# Altium integrated library NSC Amplifier.IntLib: 737 symbols (part 6 of 19)
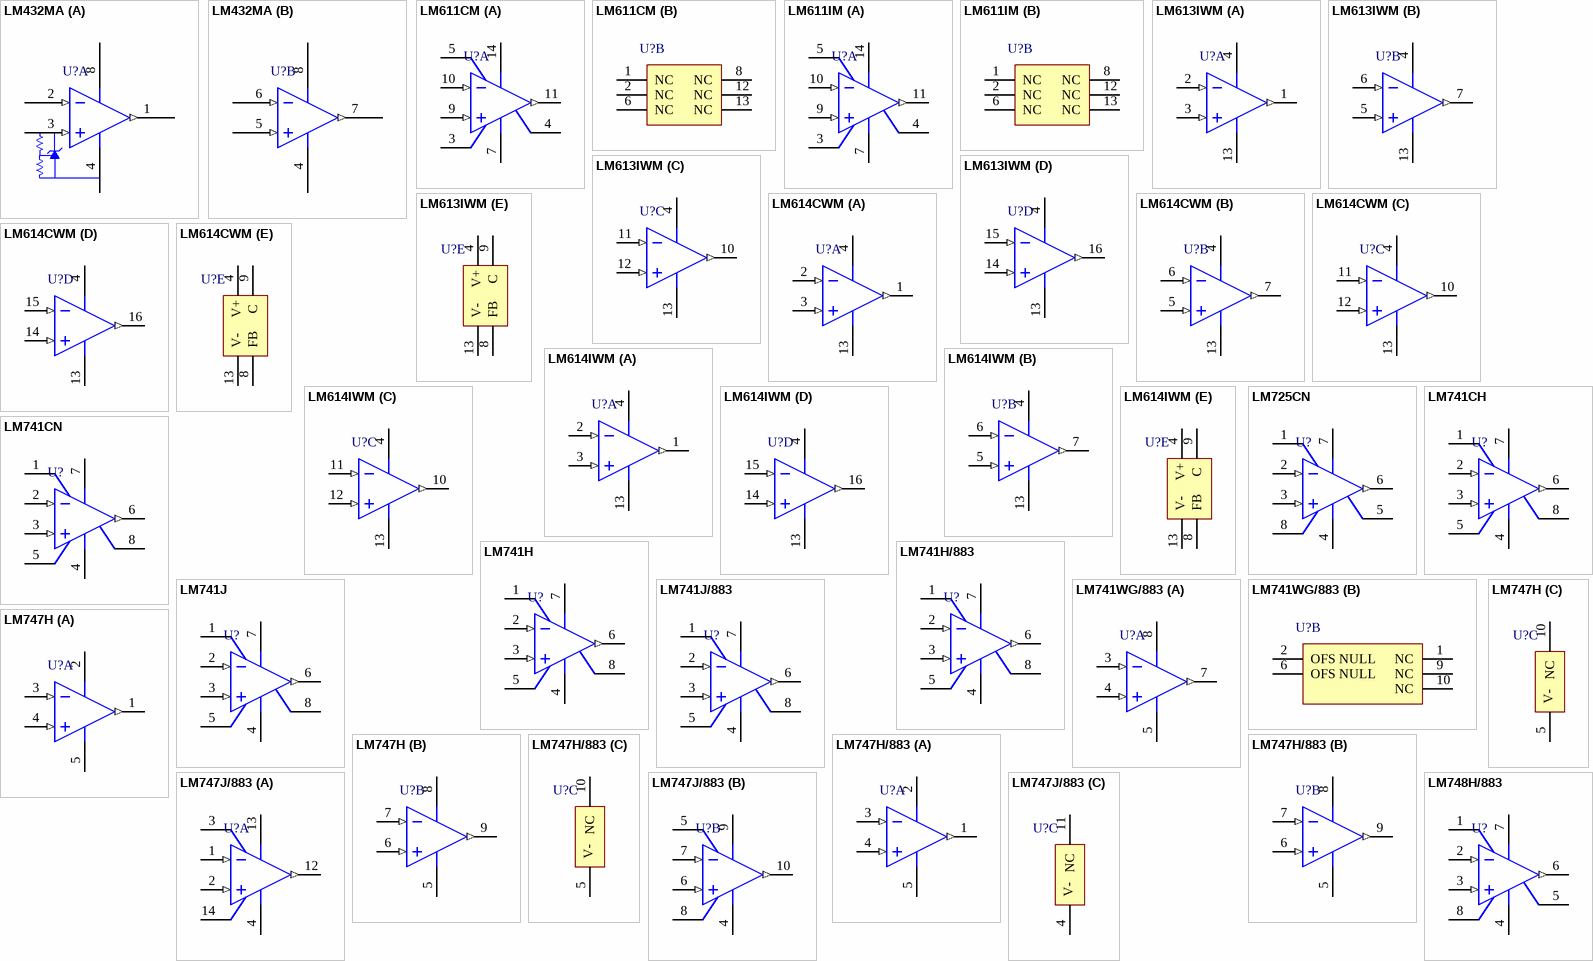
[diagram p44: symbols LM432MA to LM748H/883]

## LM614CWM
designator U?
Quad Operational Amplifier and Adjustable Reference; PartNumber: LM614CWM; Manufacturer: National Semiconductor; CompType: Amplifiers; PackageTopMarking: NSUZXYTT*LM614CWM; PowerWise: N; Published: 4-Dec-2008; DatasheetVersion: Dec-2001; PackageVersion: revF, Apr-1990; PackageReference: M16B; Publisher: Altium Limited; PackageDescription: Molded Package, S.O., .300in Wide, 16 Lead; RoHS: Y; PinCount: 16; DigiKeyPartNumber: LM614CWM-ND; Code_JEDEC: MS-013-AA; Code_IPC: SOIC127P1030-16; ComponentLink1Description: LM614 Datasheet; ComponentLink1URL: http://www.national.com/ds/LM/LM614.pdf; ComponentLink2Description: LM614 Web Page; ComponentLink2URL: http://www.national.com/pf/LM/LM614.html; ComponentLink3Description: M16B Package Page; ComponentLink3URL: http://www.national.com/packaging/folders/m16b.html
footprint M16B_N (SOIC, 16-Leads, Body 10.3x7.5mm, Pitch 1.27mm, IPC Medium Density)
footprint M16B_L (SOIC, 16-Leads, Body 10.3x7.5mm, Pitch 1.27mm, IPC High Density)
footprint M16B_M (SOIC, 16-Leads, Body 10.3x7.5mm, Pitch 1.27mm, IPC Low Density)
pins on every part: 4 V+ (power), 13 V- (power)
part A pins: 1 OUT1 (out), 2 IN1- (in), 3 IN1+ (in)
part B pins: 5 IN2+ (in), 6 IN2- (in), 7 OUT2 (out)
part C pins: 10 OUT3 (out), 11 IN3- (in), 12 IN3+ (in)
part D pins: 14 IN4+ (in), 15 IN4- (in), 16 OUT4 (out)
part E pins: 8 FB, 9 C

## LM614IWM
designator U?
Quad Operational Amplifier and Adjustable Reference; PartNumber: LM614IWM; Manufacturer: National Semiconductor; CompType: Amplifiers; PackageTopMarking: NSUZXYTT*LM614IWM; PowerWise: N; Published: 4-Dec-2008; LatestRevisionDate: 13-Jan-2009; LatestRevisionNote: Sim Model Added.; DatasheetVersion: Dec-2001; PackageVersion: revF, Apr-1990; PackageReference: M16B; Publisher: Altium Limited; PackageDescription: Molded Package, S.O., .300in Wide, 16 Lead; RoHS: O; PinCount: 16; DigiKeyPartNumber: LM614IWM-ND; Code_JEDEC: MS-013-AA; Code_IPC: SOIC127P1030-16; ComponentLink1Description: LM614 Datasheet; ComponentLink1URL: http://www.national.com/ds/LM/LM614.pdf; ComponentLink2Description: LM614 Web Page; ComponentLink2URL: http://www.national.com/pf/LM/LM614.html; ComponentLink3Description: M16B Package Page; ComponentLink3URL: http://www.national.com/packaging/folders/m16b.html
footprint M16B_N (SOIC, 16-Leads, Body 10.3x7.5mm, Pitch 1.27mm, IPC Medium Density)
footprint M16B_L (SOIC, 16-Leads, Body 10.3x7.5mm, Pitch 1.27mm, IPC High Density)
footprint M16B_M (SOIC, 16-Leads, Body 10.3x7.5mm, Pitch 1.27mm, IPC Low Density)
simulation model LM324 (SUBCKT)
pins on every part: 4 V+ (power), 13 V- (power)
part A pins: 1 OUT1 (out), 2 IN1- (in), 3 IN1+ (in)
part B pins: 5 IN2+ (in), 6 IN2- (in), 7 OUT2 (out)
part C pins: 10 OUT3 (out), 11 IN3- (in), 12 IN3+ (in)
part D pins: 14 IN4+ (in), 15 IN4- (in), 16 OUT4 (out)
part E pins: 8 FB, 9 C

## LM725CN
designator U?
Operational Amplifier; PartNumber: LM725CN; Manufacturer: National Semiconductor; CompType: Amplifiers; PackageTopMarking: NSUZXYTT*LM*725CN; Published: 4-Dec-2008; DatasheetVersion: Aug-2000; PackageVersion: revG, May-2006; PackageReference: N08E; Publisher: Altium Limited; PackageDescription: MDIP, .365 x .250 x .130in, 8 Lead, .100in Pitch; RoHS: O; PinCount: 8; DigiKeyPartNumber: LM725CN-ND; Code_JEDEC: MS-001-BA; ComponentLink1Description: LM725 Datasheet; ComponentLink1URL: http://www.national.com/ds/LM/LM725.pdf; ComponentLink2Description: LM725 Web Page; ComponentLink2URL: http://www.national.com/pf/LM/LM725.html; ComponentLink3Description: N08E Package Page; ComponentLink3URL: http://www.national.com/packaging/folders/n08e.html
footprint N08E (DIP, 8-Leads, Row Spacing 7.62mm, Pitch 2.54mm, Body 9.91x6.35mm)
pins: 1 OFS NULL, 2 IN- (in), 3 IN+ (in), 4 V- (power), 5 COMP, 6 OUT (out), 7 V+ (power), 8 OFS NULL

## LM741CH
designator U?
Operational Amplifier; PartNumber: LM741CH; Manufacturer: National Semiconductor; CompType: Amplifiers; PackageTopMarking: NSZXYTTE# LM741CH; PowerWise: N; Published: 4-Dec-2008; LatestRevisionDate: 13-Jan-2009; LatestRevisionNote: Sim Model Added.; DatasheetVersion: Aug-2000; PackageVersion: revF, Jun-1995; PackageReference: H08C; Publisher: Altium Limited; PackageDescription: Metal Can, TO-99, 8 Lead, .200 Dia., P.C.; RoHS: O; PinCount: 8; DigiKeyPartNumber: LM741CH-ND; Code_JEDEC: TO-99; ComponentLink1Description: LM741 Datasheet; ComponentLink1URL: http://www.national.com/ds/LM/LM741.pdf; ComponentLink2Description: LM741 Web Page; ComponentLink2URL: http://www.national.com/pf/LM/LM741.html; ComponentLink3Description: H08C Package Page; ComponentLink3URL: http://www.national.com/packaging/folders/h08c.html
footprint H08C (Can; 8 Leads; Pin Circle Dia. 5.08 mm; Lead Dia. 0.48 mm (max))
simulation model LM741 (SUBCKT)
pins: 1 OFS NULL, 2 IN- (in), 3 IN+ (in), 4 V- (power), 5 OFS NULL, 6 OUT (out), 7 V+ (power), 8 NC

## LM741CN
designator U?
Operational Amplifier; PartNumber: LM741CN; Manufacturer: National Semiconductor; CompType: Amplifiers; PackageTopMarking: NSUZXYTT*LM*741CN; PowerWise: N; Published: 4-Dec-2008; LatestRevisionDate: 13-Jan-2009; LatestRevisionNote: Sim Model Added.; DatasheetVersion: Aug-2000; PackageVersion: revG, May-2006; PackageReference: N08E; Publisher: Altium Limited; PackageDescription: MDIP, .365 x .250 x .130in, 8 Lead, .100in Pitch; RoHS: O; PinCount: 8; DigiKeyPartNumber: LM741CNNS-ND; Code_JEDEC: MS-001-BA; ComponentLink1Description: LM741 Datasheet; ComponentLink1URL: http://www.national.com/ds/LM/LM741.pdf; ComponentLink2Description: LM741 Web Page; ComponentLink2URL: http://www.national.com/pf/LM/LM741.html; ComponentLink3Description: N08E Package Page; ComponentLink3URL: http://www.national.com/packaging/folders/n08e.html
footprint N08E (DIP, 8-Leads, Row Spacing 7.62mm, Pitch 2.54mm, Body 9.91x6.35mm)
simulation model LM741 (SUBCKT)
pins: 1 OFS NULL, 2 IN- (in), 3 IN+ (in), 4 V- (power), 5 OFS NULL, 6 OUT (out), 7 V+ (power), 8 NC

## LM741H
designator U?
Operational Amplifier; PartNumber: LM741H; Manufacturer: National Semiconductor; CompType: Amplifiers; PackageTopMarking: NSZXYTTE# LM741H; PowerWise: N; Published: 4-Dec-2008; LatestRevisionDate: 13-Jan-2009; LatestRevisionNote: Sim Model Added.; DatasheetVersion: Aug-2000; PackageVersion: revF, Jun-1995; PackageReference: H08C; Publisher: Altium Limited; PackageDescription: Metal Can, TO-99, 8 Lead, .200 Dia., P.C.; RoHS: O; PinCount: 8; DigiKeyPartNumber: LM741H-ND; Code_JEDEC: TO-99; ComponentLink1Description: LM741 Datasheet; ComponentLink1URL: http://www.national.com/ds/LM/LM741.pdf; ComponentLink2Description: LM741 Web Page; ComponentLink2URL: http://www.national.com/pf/LM/LM741.html; ComponentLink3Description: H08C Package Page; ComponentLink3URL: http://www.national.com/packaging/folders/h08c.html
footprint H08C (Can; 8 Leads; Pin Circle Dia. 5.08 mm; Lead Dia. 0.48 mm (max))
simulation model LM741 (SUBCKT)
pins: 1 OFS NULL, 2 IN- (in), 3 IN+ (in), 4 V- (power), 5 OFS NULL, 6 OUT (out), 7 V+ (power), 8 NC

## LM741H/883
designator U?
Operational Amplifier; PartNumber: LM741; Manufacturer: National Semiconductor; CompType: Amplifiers; PackageTopMarking: NSZSSXXYYA LM741H/883 Q; PowerWise: N; Published: 4-Dec-2008; LatestRevisionDate: 13-Jan-2009; LatestRevisionNote: Sim Model Added.; DatasheetVersion: Aug-2000; PackageVersion: revF, Jun-1995; PackageReference: H08C; Publisher: Altium Limited; PackageDescription: Metal Can, TO-99, 8 Lead, .200 Dia., P.C.; RoHS: N; PinCount: 8; Code_JEDEC: TO-99; ComponentLink1Description: LM741 Datasheet; ComponentLink1URL: http://www.national.com/ds/LM/LM741.pdf; ComponentLink2Description: LM741 Web Page; ComponentLink2URL: http://www.national.com/pf/LM/LM741.html; ComponentLink3Description: H08C Package Page; ComponentLink3URL: http://www.national.com/packaging/folders/h08c.html
footprint H08C (Can; 8 Leads; Pin Circle Dia. 5.08 mm; Lead Dia. 0.48 mm (max))
simulation model LM741 (SUBCKT)
pins: 1 OFS NULL, 2 IN- (in), 3 IN+ (in), 4 V- (power), 5 OFS NULL, 6 OUT (out), 7 V+ (power), 8 NC

## LM741J
designator U?
Operational Amplifier; PartNumber: LM741J; Manufacturer: National Semiconductor; CompType: Amplifiers; PackageTopMarking: NSUZXYTT*LM741J; PowerWise: N; Published: 4-Dec-2008; LatestRevisionDate: 13-Jan-2009; LatestRevisionNote: Sim Model Added.; DatasheetVersion: Aug-2000; PackageVersion: revM, Jul-2002; PackageReference: J08A; Publisher: Altium Limited; PackageDescription: Cerdip, .400 x .310in Body, 8 Lead, .300in Centers, .100in Pitch; RoHS: N; PinCount: 8; DigiKeyPartNumber: LM741J-ND; ComponentLink1Description: LM741 Datasheet; ComponentLink1URL: http://www.national.com/ds/LM/LM741.pdf; ComponentLink2Description: LM741 Web Page; ComponentLink2URL: http://www.national.com/pf/LM/LM741.html; ComponentLink3Description: J08A Package Page; ComponentLink3URL: http://www.national.com/packaging/folders/j08a.html
footprint J08A (DIP, 8-Leads, Row Spacing 7.62mm, Pitch 2.54mm, Body 9.78x6.73mm)
simulation model LM741 (SUBCKT)
pins: 1 OFS NULL, 2 IN- (in), 3 IN+ (in), 4 V- (power), 5 OFS NULL, 6 OUT (out), 7 V+ (power), 8 NC

## LM741J/883
designator U?
Operational Amplifier; PartNumber: LM741J/883; Manufacturer: National Semiconductor; CompType: Amplifiers; PackageTopMarking: NSZSSXXYYA*LM741J/*883 Q; PowerWise: N; Published: 4-Dec-2008; LatestRevisionDate: 13-Jan-2009; LatestRevisionNote: Sim Model Added.; DatasheetVersion: Aug-2000; PackageVersion: revM, Jul-2002; PackageReference: J08A; Publisher: Altium Limited; PackageDescription: Cerdip, .400 x .310in Body, 8 Lead, .300in Centers, .100in Pitch; RoHS: N; PinCount: 8; ComponentLink1Description: LM741 Datasheet; ComponentLink1URL: http://www.national.com/ds/LM/LM741.pdf; ComponentLink2Description: LM741 Web Page; ComponentLink2URL: http://www.national.com/pf/LM/LM741.html; ComponentLink3Description: J08A Package Page; ComponentLink3URL: http://www.national.com/packaging/folders/j08a.html
footprint J08A (DIP, 8-Leads, Row Spacing 7.62mm, Pitch 2.54mm, Body 9.78x6.73mm)
simulation model LM741 (SUBCKT)
pins: 1 OFS NULL, 2 IN- (in), 3 IN+ (in), 4 V- (power), 5 OFS NULL, 6 OUT (out), 7 V+ (power), 8 NC

## LM741WG/883
designator U?
Operational Amplifier; PartNumber: LM741WG/883; Manufacturer: National Semiconductor; CompType: Amplifiers; PackageTopMarking: NS*ZSSXXYYA*LM741WG/*883 Q; Published: 4-Dec-2008; DatasheetVersion: Aug-2000; PackageVersion: revF, Oct-2008; PackageReference: WG10A; Publisher: Altium Limited; PackageDescription: Cerpack, .270 x .241 x .070in, 10 Lead, .050in Pitch, Gull Wing; RoHS: N; PinCount: 10; ComponentLink1Description: LM741 Datasheet; ComponentLink1URL: http://www.national.com/ds/LM/LM741.pdf; ComponentLink2Description: LM741 Web Page; ComponentLink2URL: http://www.national.com/pf/LM/LM741.html; ComponentLink3Description: WG10A Package Page; ComponentLink3URL: http://www.national.com/packaging/folders/wg10a.html
footprint WG10A_N (CERPACK, 10-Leads, Body 6.9x6.3mm, Pitch 1.27mm, IPC Medium Density)
footprint WG10A_L (CERPACK, 10-Leads, Body 6.9x6.3mm, Pitch 1.27mm, IPC High Density)
footprint WG10A_M (CERPACK, 10-Leads, Body 6.9x6.3mm, Pitch 1.27mm, IPC Low Density)
part A pins: 3 IN- (in), 4 IN+ (in), 5 V- (power), 7 OUT (out), 8 V+ (power)
part B pins: 1 NC, 2 OFS NULL, 6 OFS NULL, 9 NC, 10 NC

## LM747H
designator U?
Dual Operational Amplifier; PartNumber: LM747H; Manufacturer: National Semiconductor; CompType: Amplifiers; PackageTopMarking: NSZXYTTE# LM747H; Published: 4-Dec-2008; DatasheetVersion: Nov-1994; PackageVersion: revG, Nov-2008; PackageReference: H10C; Publisher: Altium Limited; PackageDescription: Metal Can, TO-100, 10 Lead, .230in Dia, P.C.; RoHS: O; PinCount: 10; DigiKeyPartNumber: LM747H-ND; ComponentLink1Description: LM747 Datasheet; ComponentLink1URL: http://www.national.com/ds/LM/LM747.pdf; ComponentLink2Description: LM747 Web Page; ComponentLink2URL: http://www.national.com/pf/LM/LM747.html; ComponentLink3Description: H10C Package Page; ComponentLink3URL: http://www.national.com/packaging/folders/h10c.html
footprint H10C (Can; 10 Leads; Pin Circle Dia. 5.84 mm; Lead Dia. 0.48 mm (max))
pins on every part: 5 V- (power)
part A pins: 1 OUTA (out), 2 VA+ (power), 3 INA- (in), 4 INA+ (in)
part B pins: 6 INB+ (in), 7 INB- (in), 8 VB+ (power), 9 OUTB (out)
part C pins: 10 NC

## LM747H/883
designator U?
Dual Operational Amplifier; PartNumber: LM747; Manufacturer: National Semiconductor; CompType: Amplifiers; PackageTopMarking: NSZSSXXYYA LM747H/883 Q; PowerWise: N; Published: 4-Dec-2008; LatestRevisionDate: 13-Jan-2009; LatestRevisionNote: Sim Model Added.; DatasheetVersion: Nov-1994; PackageVersion: revG, Nov-2008; PackageReference: H10C; Publisher: Altium Limited; PackageDescription: Metal Can, TO-100, 10 Lead, .230in Dia, P.C.; RoHS: N; PinCount: 10; ComponentLink1Description: LM747 Datasheet; ComponentLink1URL: http://www.national.com/ds/LM/LM747.pdf; ComponentLink2Description: LM747 Web Page; ComponentLink2URL: http://www.national.com/pf/LM/LM747.html; ComponentLink3Description: H10C Package Page; ComponentLink3URL: http://www.national.com/packaging/folders/h10c.html
footprint H10C (Can; 10 Leads; Pin Circle Dia. 5.84 mm; Lead Dia. 0.48 mm (max))
simulation model LM741 (SUBCKT)
pins on every part: 5 V- (power)
part A pins: 1 OUTA (out), 2 VA+ (power), 3 INA- (in), 4 INA+ (in)
part B pins: 6 INB+ (in), 7 INB- (in), 8 VB+ (power), 9 OUTB (out)
part C pins: 10 NC

## LM747J/883
designator U?
Dual Operational Amplifier; PartNumber: LM747J/883; Manufacturer: National Semiconductor; CompType: Amplifiers; PackageTopMarking: NSZSSXXYYA*LM747J/883 Q; PowerWise: N; Published: 4-Dec-2008; LatestRevisionDate: 13-Jan-2009; LatestRevisionNote: Sim Model Added.; DatasheetVersion: Nov-1994; PackageVersion: revJ, Jul-2002; PackageReference: J14A; Publisher: Altium Limited; PackageDescription: Cerdip, .400 x .310in Body, 14 Lead, .300in Centers, .100in Pitch; RoHS: N; PinCount: 14; ComponentLink1Description: LM747 Datasheet; ComponentLink1URL: http://www.national.com/ds/LM/LM747.pdf; ComponentLink2Description: LM747 Web Page; ComponentLink2URL: http://www.national.com/pf/LM/LM747.html; ComponentLink3Description: J14A Package Page; ComponentLink3URL: http://www.national.com/packaging/folders/j14a.html
footprint J14A (DIP, 14-Leads, Row Spacing 7.62mm, Pitch 2.54mm, Body 19.56x6.73mm)
simulation model LM741 (SUBCKT)
pins on every part: 4 V- (power)
part A pins: 1 INA- (in), 2 INA+ (in), 3 OFS NULLA, 12 OUTA (out), 13 VA+ (power), 14 OFS NULLA
part B pins: 5 OFS NULLB, 6 INB+ (in), 7 INB- (in), 8 OFS NULLB, 9 VB+ (power), 10 OUTB (out)
part C pins: 11 NC

## LM748H/883
designator U?
Operational Amplifier; PartNumber: LM748; Manufacturer: National Semiconductor; CompType: Amplifiers; PackageTopMarking: NSZSSXXYYA LM748H/883 Q; PowerWise: N; Published: 4-Dec-2008; DatasheetVersion: Apr-2007; PackageVersion: revF, Jun-1995; PackageReference: H08C; Publisher: Altium Limited; PackageDescription: Metal Can, TO-99, 8 Lead, .200 Dia., P.C.; RoHS: N; PinCount: 8; Code_JEDEC: TO-99; ComponentLink1Description: LM748 Datasheet; ComponentLink1URL: http://www.national.com/ds/LM/LM748.pdf; ComponentLink2Description: LM748 Web Page; ComponentLink2URL: http://www.national.com/pf/LM/LM748.html; ComponentLink3Description: H08C Package Page; ComponentLink3URL: http://www.national.com/packaging/folders/h08c.html
footprint H08C (Can; 8 Leads; Pin Circle Dia. 5.08 mm; Lead Dia. 0.48 mm (max))
pins: 1 COMP, 2 IN- (in), 3 IN+ (in), 4 V- (power), 5 BAL, 6 OUT (out), 7 V+ (power), 8 COMP

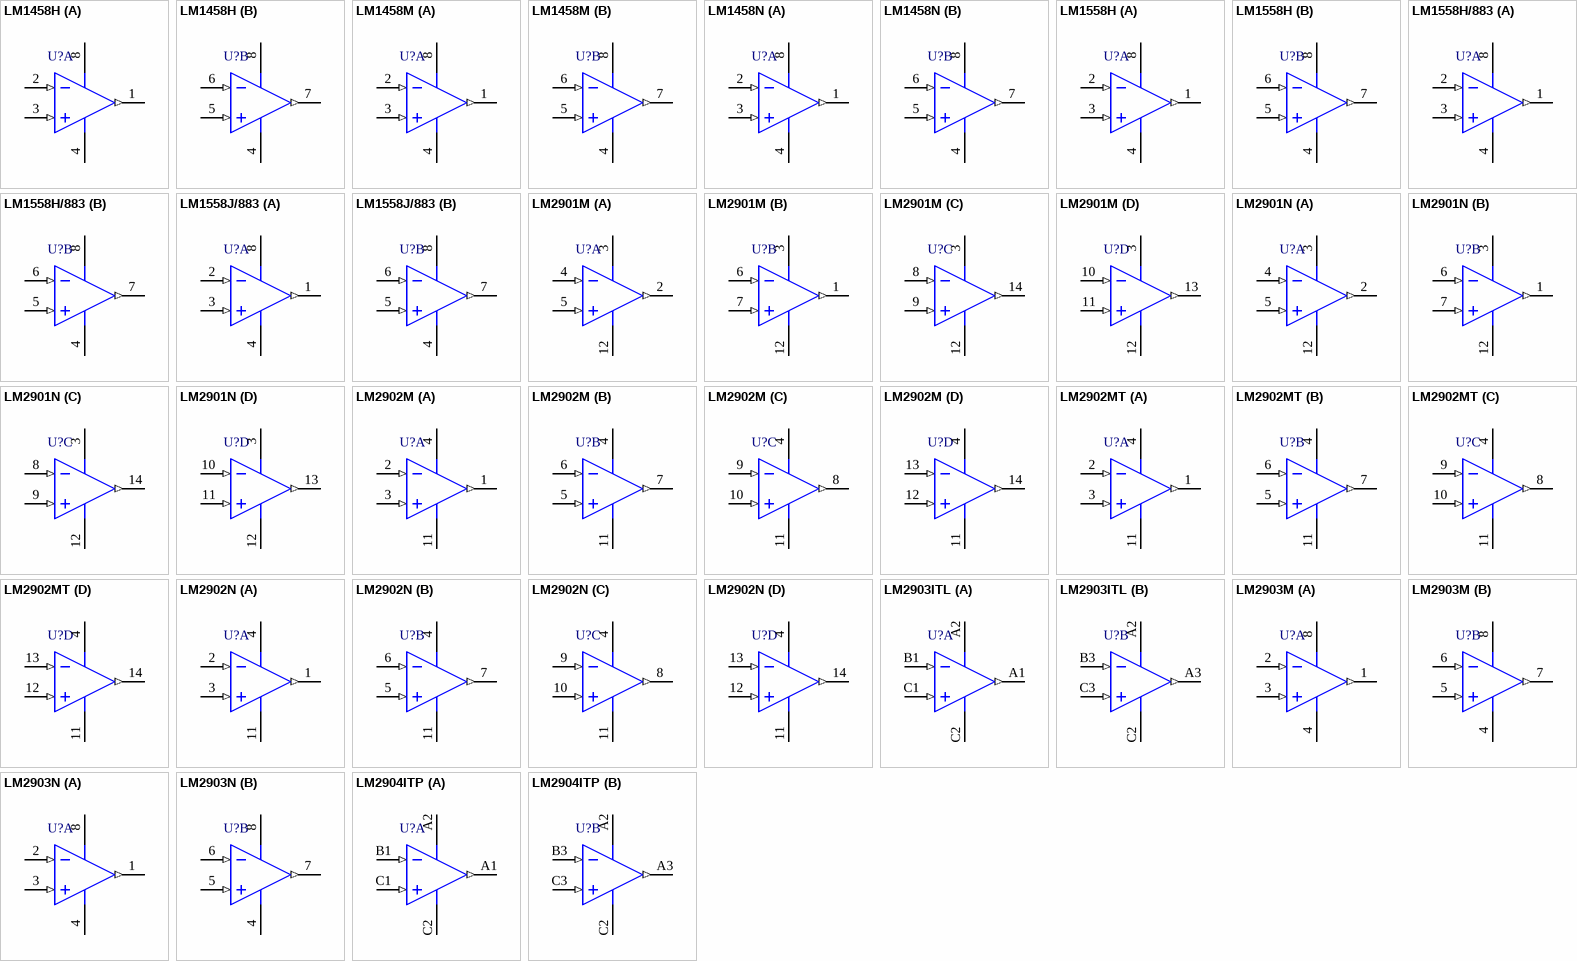
[diagram p14: symbols LM1458H to LM2904ITP]

## LM1458H
designator U?
Dual Operational Amplifier; PartNumber: LM1458H; Manufacturer: National Semiconductor; CompType: Amplifiers; PackageTopMarking: NSZXYTTE# LM1458H; Published: 4-Dec-2008; DatasheetVersion: Aug-2003; PackageVersion: revF, Jun-1995; PackageReference: H08C; Publisher: Altium Limited; PackageDescription: Metal Can, TO-99, 8 Lead, .200 Dia., P.C.; RoHS: O; PinCount: 8; DigiKeyPartNumber: LM1458H-ND; Code_JEDEC: TO-99; ComponentLink1Description: LM1458 Datasheet; ComponentLink1URL: http://www.national.com/ds/LM/LM1458.pdf; ComponentLink2Description: LM1458 Web Page; ComponentLink2URL: http://www.national.com/pf/LM/LM1458.html; ComponentLink3Description: H08C Package Page; ComponentLink3URL: http://www.national.com/packaging/folders/h08c.html
footprint H08C (Can; 8 Leads; Pin Circle Dia. 5.08 mm; Lead Dia. 0.48 mm (max))
pins on every part: 4 V- (power), 8 V+ (power)
part A pins: 1 OUTA (out), 2 INA- (in), 3 INA+ (in)
part B pins: 5 INB+ (in), 6 INB- (in), 7 OUTB (out)

## LM1458M
designator U?
Dual Operational Amplifier; PartNumber: LM1458M; Manufacturer: National Semiconductor; CompType: Amplifiers; PackageTopMarking: NSZXTT*LM*1458M; PowerWise: N; Published: 4-Dec-2008; DatasheetVersion: Aug-2003; PackageVersion: revL, Sep-2006; PackageReference: M08A; Publisher: Altium Limited; PackageDescription: SOIC Narrow, 4.9 x 3.9 x 1.45mm, 8 Lead, 1.27mm Pitch; RoHS: O; PinCount: 8; DigiKeyPartNumber: LM1458MXCT-ND; Code_JEDEC: MS-012-AA; Code_IPC: SOIC127P600-8; ComponentLink1Description: LM1458 Datasheet; ComponentLink1URL: http://www.national.com/ds/LM/LM1458.pdf; ComponentLink2Description: LM1458 Web Page; ComponentLink2URL: http://www.national.com/pf/LM/LM1458.html; ComponentLink3Description: M08A Package Page; ComponentLink3URL: http://www.national.com/packaging/folders/m08a.html
footprint M08A_N (SOIC, 8-Leads, Body 4.9x3.9mm, Pitch 1.27mm, IPC Medium Density)
footprint M08A_L (SOIC, 8-Leads, Body 4.9x3.9mm, Pitch 1.27mm, IPC High Density)
footprint M08A_M (SOIC, 8-Leads, Body 4.9x3.9mm, Pitch 1.27mm, IPC Low Density)
pins on every part: 4 V- (power), 8 V+ (power)
part A pins: 1 OUTA (out), 2 INA- (in), 3 INA+ (in)
part B pins: 5 INB+ (in), 6 INB- (in), 7 OUTB (out)

## LM1458N
designator U?
Dual Operational Amplifier; PartNumber: LM1458N; Manufacturer: National Semiconductor; CompType: Amplifiers; PackageTopMarking: NSUZXYTT*LM1458N; PowerWise: N; Published: 4-Dec-2008; DatasheetVersion: Aug-2003; PackageVersion: revG, May-2006; PackageReference: N08E; Publisher: Altium Limited; PackageDescription: MDIP, .365 x .250 x .130in, 8 Lead, .100in Pitch; RoHS: O; PinCount: 8; DigiKeyPartNumber: LM1458NNS-ND; Code_JEDEC: MS-001-BA; ComponentLink1Description: LM1458 Datasheet; ComponentLink1URL: http://www.national.com/ds/LM/LM1458.pdf; ComponentLink2Description: LM1458 Web Page; ComponentLink2URL: http://www.national.com/pf/LM/LM1458.html; ComponentLink3Description: N08E Package Page; ComponentLink3URL: http://www.national.com/packaging/folders/n08e.html
footprint N08E (DIP, 8-Leads, Row Spacing 7.62mm, Pitch 2.54mm, Body 9.91x6.35mm)
pins on every part: 4 V- (power), 8 V+ (power)
part A pins: 1 OUTA (out), 2 INA- (in), 3 INA+ (in)
part B pins: 5 INB+ (in), 6 INB- (in), 7 OUTB (out)

## LM1558H
designator U?
Dual Operational Amplifier; PartNumber: LM1558H; Manufacturer: National Semiconductor; CompType: Amplifiers; PackageTopMarking: NSZXYTTE# LM1558H; PowerWise: N; Published: 4-Dec-2008; DatasheetVersion: Aug-2003; PackageVersion: revF, Jun-1995; PackageReference: H08C; Publisher: Altium Limited; PackageDescription: Metal Can, TO-99, 8 Lead, .200 Dia., P.C.; RoHS: O; PinCount: 8; DigiKeyPartNumber: LM1558H-ND; Code_JEDEC: TO-99; ComponentLink1Description: LM1558 Datasheet; ComponentLink1URL: http://www.national.com/ds/LM/LM1558.pdf; ComponentLink2Description: LM1558 Web Page; ComponentLink2URL: http://www.national.com/pf/LM/LM1558.html; ComponentLink3Description: H08C Package Page; ComponentLink3URL: http://www.national.com/packaging/folders/h08c.html
footprint H08C (Can; 8 Leads; Pin Circle Dia. 5.08 mm; Lead Dia. 0.48 mm (max))
pins on every part: 4 V- (power), 8 V+ (power)
part A pins: 1 OUTA (out), 2 INA- (in), 3 INA+ (in)
part B pins: 5 INB+ (in), 6 INB- (in), 7 OUTB (out)

## LM1558H/883
designator U?
Dual Operational Amplifier; PartNumber: LM1558; Manufacturer: National Semiconductor; CompType: Amplifiers; PackageTopMarking: NSZSSXXYYA LM1558H/883 Q; PowerWise: N; Published: 4-Dec-2008; DatasheetVersion: Aug-2003; PackageVersion: revF, Jun-1995; PackageReference: H08C; Publisher: Altium Limited; PackageDescription: Metal Can, TO-99, 8 Lead, .200 Dia., P.C.; RoHS: N; PinCount: 8; Code_JEDEC: TO-99; ComponentLink1Description: LM1558 Datasheet; ComponentLink1URL: http://www.national.com/ds/LM/LM1558.pdf; ComponentLink2Description: LM1558 Web Page; ComponentLink2URL: http://www.national.com/pf/LM/LM1558.html; ComponentLink3Description: H08C Package Page; ComponentLink3URL: http://www.national.com/packaging/folders/h08c.html
footprint H08C (Can; 8 Leads; Pin Circle Dia. 5.08 mm; Lead Dia. 0.48 mm (max))
pins on every part: 4 V- (power), 8 V+ (power)
part A pins: 1 OUTA (out), 2 INA- (in), 3 INA+ (in)
part B pins: 5 INB+ (in), 6 INB- (in), 7 OUTB (out)

## LM1558J/883
designator U?
Dual Operational Amplifier; PartNumber: LM1558J/883; Manufacturer: National Semiconductor; CompType: Amplifiers; PackageTopMarking: NSZSSXXYYA*LM1558J/*883 Q; PowerWise: N; Published: 4-Dec-2008; DatasheetVersion: Aug-2003; PackageVersion: revM, Jul-2002; PackageReference: J08A; Publisher: Altium Limited; PackageDescription: Cerdip, .400 x .310in Body, 8 Lead, .300in Centers, .100in Pitch; RoHS: N; PinCount: 8; ComponentLink1Description: LM1558 Datasheet; ComponentLink1URL: http://www.national.com/ds/LM/LM1558.pdf; ComponentLink2Description: LM1558 Web Page; ComponentLink2URL: http://www.national.com/pf/LM/LM1558.html; ComponentLink3Description: J08A Package Page; ComponentLink3URL: http://www.national.com/packaging/folders/j08a.html
footprint J08A (DIP, 8-Leads, Row Spacing 7.62mm, Pitch 2.54mm, Body 9.78x6.73mm)
pins on every part: 4 V- (power), 8 V+ (power)
part A pins: 1 OUTA (out), 2 INA- (in), 3 INA+ (in)
part B pins: 5 INB+ (in), 6 INB- (in), 7 OUTB (out)

## LM2901M
designator U?
Low Power Low Offset Voltage Quad Comparator; PartNumber: LM2901M; Manufacturer: National Semiconductor; CompType: Amplifiers; PackageTopMarking: NSUZXYTT*LM2901M; PowerWise: N; Published: 4-Dec-2008; DatasheetVersion: Mar-2004; PackageVersion: revJ, Jan-1996; PackageReference: M14A; Publisher: Altium Limited; PackageDescription: Molded Package S.O., .150in Wide, 14 Lead; RoHS: O; PinCount: 14; DigiKeyPartNumber: LM2901MXCT-ND; Code_JEDEC: MS-012AB; Code_IPC: SOIC127P600-14; ComponentLink1Description: LM2901 Datasheet; ComponentLink1URL: http://www.national.com/ds/LM/LM2901.pdf; ComponentLink2Description: LM2901 Web Page; ComponentLink2URL: http://www.national.com/pf/LM/LM2901.html; ComponentLink3Description: M14A Package Page; ComponentLink3URL: http://www.national.com/packaging/folders/m14a.html
footprint M14A_N (SOIC, 14-Leads, Body 8.6x3.9mm, Pitch 1.27mm, IPC Medium Density)
footprint M14A_L (SOIC, 14-Leads, Body 8.6x3.9mm, Pitch 1.27mm, IPC High Density)
footprint M14A_M (SOIC, 14-Leads, Body 8.6x3.9mm, Pitch 1.27mm, IPC Low Density)
pins on every part: 3 V+ (power), 12 GND (power)
part A pins: 2 OUT1 (out), 4 IN1- (in), 5 IN1+ (in)
part B pins: 1 OUT2 (out), 6 IN2- (in), 7 IN2+ (in)
part C pins: 8 IN3- (in), 9 IN3+ (in), 14 OUT3 (out)
part D pins: 10 IN4- (in), 11 IN4+ (in), 13 OUT4 (out)

## LM2901N
designator U?
Low Power Low Offset Voltage Quad Comparator; PartNumber: LM2901N; Manufacturer: National Semiconductor; CompType: Amplifiers; PackageTopMarking: NSUZXYYTTE#*LM2901N; PowerWise: N; Published: 4-Dec-2008; DatasheetVersion: Mar-2004; PackageVersion: revG, May-2006; PackageReference: N14A; Publisher: Altium Limited; PackageDescription: MDIP, .750 x .250 x.130in, 14 Lead, .100in Pitch; RoHS: O; PinCount: 14; DigiKeyPartNumber: LM2901NNS-ND; Code_JEDEC: MS-001-AA; ComponentLink1Description: LM2901 Datasheet; ComponentLink1URL: http://www.national.com/ds/LM/LM2901.pdf; ComponentLink2Description: LM2901 Web Page; ComponentLink2URL: http://www.national.com/pf/LM/LM2901.html; ComponentLink3Description: N14A Package Page; ComponentLink3URL: http://www.national.com/packaging/folders/n14a.html
footprint N14A (DIP, 14-Leads, Row Spacing 7.62mm, Pitch 2.54mm, Body 19.56x6.35mm)
pins on every part: 3 V+ (power), 12 GND (power)
part A pins: 2 OUT1 (out), 4 IN1- (in), 5 IN1+ (in)
part B pins: 1 OUT2 (out), 6 IN2- (in), 7 IN2+ (in)
part C pins: 8 IN3- (in), 9 IN3+ (in), 14 OUT3 (out)
part D pins: 10 IN4- (in), 11 IN4+ (in), 13 OUT4 (out)

## LM2902M
designator U?
Low Power Quad Operational Amplifier; PartNumber: LM2902M; Manufacturer: National Semiconductor; CompType: Amplifiers; PackageTopMarking: NSUZXYTT*LM2902M; PowerWise: N; Published: 4-Dec-2008; LatestRevisionDate: 13-Jan-2009; LatestRevisionNote: Sim Model Added.; DatasheetVersion: Aug-2000; PackageVersion: revJ, Jan-1996; PackageReference: M14A; Publisher: Altium Limited; PackageDescription: Molded Package S.O., .150in Wide, 14 Lead; RoHS: O; PinCount: 14; DigiKeyPartNumber: LM2902MXCT-ND; Code_JEDEC: MS-012AB; Code_IPC: SOIC127P600-14; ComponentLink1Description: LM2902 Datasheet; ComponentLink1URL: http://www.national.com/ds/LM/LM2902.pdf; ComponentLink2Description: LM2902 Web Page; ComponentLink2URL: http://www.national.com/pf/LM/LM2902.html; ComponentLink3Description: M14A Package Page; ComponentLink3URL: http://www.national.com/packaging/folders/m14a.html
footprint M14A_N (SOIC, 14-Leads, Body 8.6x3.9mm, Pitch 1.27mm, IPC Medium Density)
footprint M14A_L (SOIC, 14-Leads, Body 8.6x3.9mm, Pitch 1.27mm, IPC High Density)
footprint M14A_M (SOIC, 14-Leads, Body 8.6x3.9mm, Pitch 1.27mm, IPC Low Density)
simulation model LM2902 (SUBCKT)
pins on every part: 4 V+ (power), 11 GND (power)
part A pins: 1 OUT1 (out), 2 IN1- (in), 3 IN1+ (in)
part B pins: 5 IN2+ (in), 6 IN2- (in), 7 OUT2 (out)
part C pins: 8 OUT3 (out), 9 IN3- (in), 10 IN3+ (in)
part D pins: 12 IN4+ (in), 13 IN4- (in), 14 OUT4 (out)

## LM2902MT
designator U?
Low Power Quad Operational Amplifier; PartNumber: LM2902MT; Manufacturer: National Semiconductor; CompType: Amplifiers; PackageTopMarking: NSUZXYTT*LM290*2MT; PowerWise: N; Published: 4-Dec-2008; LatestRevisionDate: 13-Jan-2009; LatestRevisionNote: Sim Model Added.; DatasheetVersion: Aug-2000; PackageVersion: revD, Jun-2003; PackageReference: MTC14; Publisher: Altium Limited; PackageDescription: Molded TSSOP, JEDEC, 5 x 4.4 x 0.9mm Body, 14 Lead, 0.65mm Pitch; RoHS: O; PinCount: 14; DigiKeyPartNumber: LM2902MT-ND; Code_JEDEC: MO-153-AB-1; ComponentLink1Description: LM2902 Datasheet; ComponentLink1URL: http://www.national.com/ds/LM/LM2902.pdf; ComponentLink2Description: LM2902 Web Page; ComponentLink2URL: http://www.national.com/pf/LM/LM2902.html; ComponentLink3Description: MTC14 Package Page; ComponentLink3URL: http://www.national.com/packaging/folders/mtc14.html
footprint MTC14_N (TSOP, 14-Leads, Body 5x4.4mm, Pitch 0.65mm, IPC Medium Density)
footprint MTC14_L (TSOP, 14-Leads, Body 5x4.4mm, Pitch 0.65mm, IPC High Density)
footprint MTC14_M (TSOP, 14-Leads, Body 5x4.4mm, Pitch 0.65mm, IPC Low Density)
simulation model LM2902 (SUBCKT)
pins on every part: 4 V+ (power), 11 GND (power)
part A pins: 1 OUT1 (out), 2 IN1- (in), 3 IN1+ (in)
part B pins: 5 IN2+ (in), 6 IN2- (in), 7 OUT2 (out)
part C pins: 8 OUT3 (out), 9 IN3- (in), 10 IN3+ (in)
part D pins: 12 IN4+ (in), 13 IN4- (in), 14 OUT4 (out)

## LM2902N
designator U?
Low Power Quad Operational Amplifier; PartNumber: LM2902N; Manufacturer: National Semiconductor; CompType: Amplifiers; PackageTopMarking: NSUZXYYTTE#*LM2902N; PowerWise: N; Published: 4-Dec-2008; LatestRevisionDate: 13-Jan-2009; LatestRevisionNote: Sim Model Added.; DatasheetVersion: Aug-2000; PackageVersion: revG, May-2006; PackageReference: N14A; Publisher: Altium Limited; PackageDescription: MDIP, .750 x .250 x.130in, 14 Lead, .100in Pitch; RoHS: O; PinCount: 14; DigiKeyPartNumber: LM2902NNS-ND; Code_JEDEC: MS-001-AA; ComponentLink1Description: LM2902 Datasheet; ComponentLink1URL: http://www.national.com/ds/LM/LM2902.pdf; ComponentLink2Description: LM2902 Web Page; ComponentLink2URL: http://www.national.com/pf/LM/LM2902.html; ComponentLink3Description: N14A Package Page; ComponentLink3URL: http://www.national.com/packaging/folders/n14a.html
footprint N14A (DIP, 14-Leads, Row Spacing 7.62mm, Pitch 2.54mm, Body 19.56x6.35mm)
simulation model LM2902 (SUBCKT)
pins on every part: 4 V+ (power), 11 GND (power)
part A pins: 1 OUT1 (out), 2 IN1- (in), 3 IN1+ (in)
part B pins: 5 IN2+ (in), 6 IN2- (in), 7 OUT2 (out)
part C pins: 8 OUT3 (out), 9 IN3- (in), 10 IN3+ (in)
part D pins: 12 IN4+ (in), 13 IN4- (in), 14 OUT4 (out)

## LM2903ITL
designator U?
Low Power Low Offset Voltage Dual Comparator; PartNumber: LM2903ITL; Manufacturer: National Semiconductor; CompType: Amplifiers; PackageTopMarking: XVC*I 03; PowerWise: N; Published: 4-Dec-2008; DatasheetVersion: Aug-2002; PackageVersion: revC, Jan-2004; PackageReference: TLA08AAA; Publisher: Altium Limited; PackageDescription: Thin Micro SMD, 8 Bump (Large), 0.5mm Pitch; RoHS: O; PinCount: 8; DigiKeyPartNumber: LM2903ITL-ND; ComponentLink1Description: LM2903 Datasheet; ComponentLink1URL: http://www.national.com/ds/LM/LM2903.pdf; ComponentLink2Description: LM2903 Web Page; ComponentLink2URL: http://www.national.com/pf/LM/LM2903.html; ComponentLink3Description: TLA08AAA Package Page; ComponentLink3URL: http://www.national.com/packaging/folders/tla08aaa.html
footprint TLA08AAA (Micro SMD, 8-Leads, Body 1.52x1.52mm, Pitch 0.5mm, NSC Recommended)
pins on every part: A2 V+ (power), C2 GND (power)
part A pins: A1 OUTA (out), B1 INA- (in), C1 INA+ (in)
part B pins: A3 OUTB (out), B3 INB- (in), C3 INB+ (in)

## LM2903M
designator U?
Low Power Low Offset Voltage Dual Comparator; PartNumber: LM2903M; Manufacturer: National Semiconductor; CompType: Amplifiers; PackageTopMarking: NSZXTT*LM*2903M; PowerWise: N; Published: 4-Dec-2008; DatasheetVersion: Aug-2002; PackageVersion: revL, Sep-2006; PackageReference: M08A; Publisher: Altium Limited; PackageDescription: SOIC Narrow, 4.9 x 3.9 x 1.45mm, 8 Lead, 1.27mm Pitch; RoHS: O; PinCount: 8; DigiKeyPartNumber: LM2903MXCT-ND; Code_JEDEC: MS-012-AA; Code_IPC: SOIC127P600-8; ComponentLink1Description: LM2903 Datasheet; ComponentLink1URL: http://www.national.com/ds/LM/LM2903.pdf; ComponentLink2Description: LM2903 Web Page; ComponentLink2URL: http://www.national.com/pf/LM/LM2903.html; ComponentLink3Description: M08A Package Page; ComponentLink3URL: http://www.national.com/packaging/folders/m08a.html
footprint M08A_N (SOIC, 8-Leads, Body 4.9x3.9mm, Pitch 1.27mm, IPC Medium Density)
footprint M08A_L (SOIC, 8-Leads, Body 4.9x3.9mm, Pitch 1.27mm, IPC High Density)
footprint M08A_M (SOIC, 8-Leads, Body 4.9x3.9mm, Pitch 1.27mm, IPC Low Density)
pins on every part: 4 GND (power), 8 V+ (power)
part A pins: 1 OUTA (out), 2 INA- (in), 3 INA+ (in)
part B pins: 5 INB+ (in), 6 INB- (in), 7 OUTB (out)

## LM2903N
designator U?
Low Power Low Offset Voltage Dual Comparator; PartNumber: LM2903N; Manufacturer: National Semiconductor; CompType: Amplifiers; PackageTopMarking: NSUZXYTT*LM*2903N; PowerWise: N; Published: 4-Dec-2008; DatasheetVersion: Aug-2002; PackageVersion: revG, May-2006; PackageReference: N08E; Publisher: Altium Limited; PackageDescription: MDIP, .365 x .250 x .130in, 8 Lead, .100in Pitch; RoHS: O; PinCount: 8; DigiKeyPartNumber: LM2903NNS-ND; Code_JEDEC: MS-001-BA; ComponentLink1Description: LM2903 Datasheet; ComponentLink1URL: http://www.national.com/ds/LM/LM2903.pdf; ComponentLink2Description: LM2903 Web Page; ComponentLink2URL: http://www.national.com/pf/LM/LM2903.html; ComponentLink3Description: N08E Package Page; ComponentLink3URL: http://www.national.com/packaging/folders/n08e.html
footprint N08E (DIP, 8-Leads, Row Spacing 7.62mm, Pitch 2.54mm, Body 9.91x6.35mm)
pins on every part: 4 GND (power), 8 V+ (power)
part A pins: 1 OUTA (out), 2 INA- (in), 3 INA+ (in)
part B pins: 5 INB+ (in), 6 INB- (in), 7 OUTB (out)

## LM2904ITP
designator U?
Low Power Dual Operational Amplifier; PartNumber: LM2904ITP; Manufacturer: National Semiconductor; CompType: Amplifiers; PackageTopMarking: XVA*I 09; PowerWise: N; Published: 4-Dec-2008; LatestRevisionDate: 13-Jan-2009; LatestRevisionNote: Sim Model Added.; DatasheetVersion: Oct-2005; PackageVersion: revA, Mar-2002; PackageReference: TPA08AAA; Publisher: Altium Limited; PackageDescription: Thin Micro SMD, 8 Bump, 0.5mm Pitch; RoHS: Y; PinCount: 8; DigiKeyPartNumber: LM2904ITP-ND; Code_JEDEC: MO-211-BC; ComponentLink1Description: LM2904 Datasheet; ComponentLink1URL: http://www.national.com/ds/LM/LM2904.pdf; ComponentLink2Description: LM2904 Web Page; ComponentLink2URL: http://www.national.com/pf/LM/LM2904.html; ComponentLink3Description: TPA08AAA Package Page; ComponentLink3URL: http://www.national.com/packaging/folders/tpa08aaa.html
footprint TPA08AAA (Micro SMD, 8-Leads, Body 1.29x1.29mm, Pitch 0.5mm, NSC Recommended)
simulation model LM2904 (SUBCKT)
pins on every part: A2 V+ (power), C2 GND (power)
part A pins: A1 OUTA (out), B1 INA- (in), C1 INA+ (in)
part B pins: A3 OUTB (out), B3 INB- (in), C3 INB+ (in)

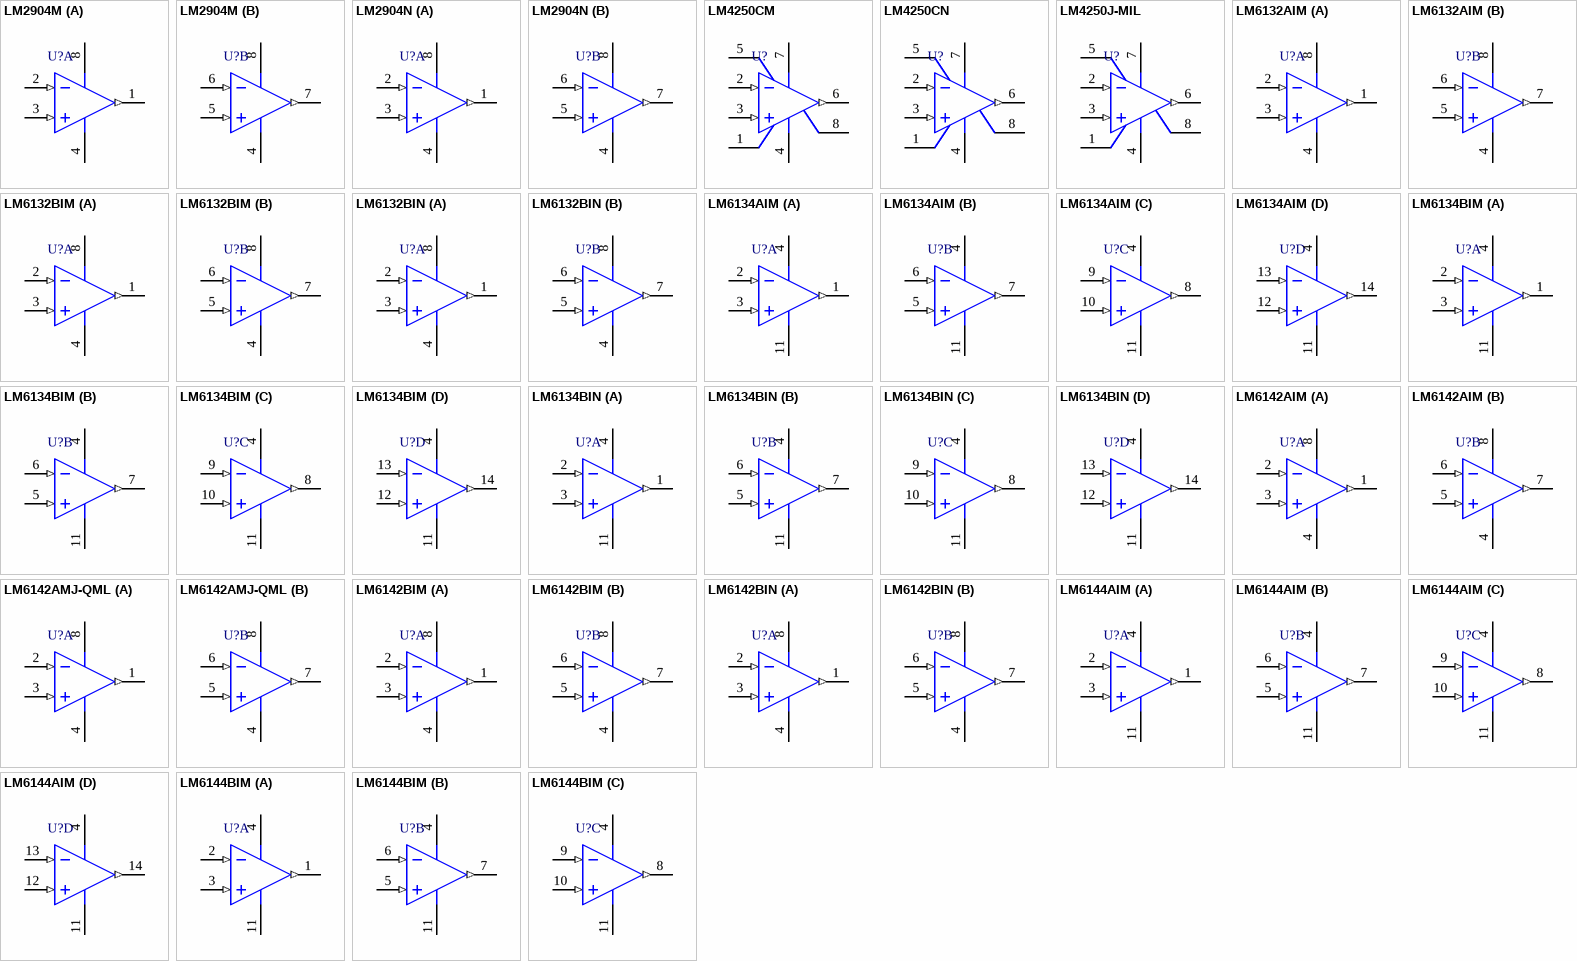
[diagram p15: symbols LM2904M to LM6144BIM]

## LM2904M
designator U?
Low Power Dual Operational Amplifier; PartNumber: LM2904M; Manufacturer: National Semiconductor; CompType: Amplifiers; PackageTopMarking: NSZXTT*LM*2904M; PowerWise: N; Published: 4-Dec-2008; LatestRevisionDate: 13-Jan-2009; LatestRevisionNote: Sim Model Added.; DatasheetVersion: Oct-2005; PackageVersion: revL, Sep-2006; PackageReference: M08A; Publisher: Altium Limited; PackageDescription: SOIC Narrow, 4.9 x 3.9 x 1.45mm, 8 Lead, 1.27mm Pitch; RoHS: O; PinCount: 8; DigiKeyPartNumber: LM2904MXCT-ND; Code_JEDEC: MS-012-AA; Code_IPC: SOIC127P600-8; ComponentLink1Description: LM2904 Datasheet; ComponentLink1URL: http://www.national.com/ds/LM/LM2904.pdf; ComponentLink2Description: LM2904 Web Page; ComponentLink2URL: http://www.national.com/pf/LM/LM2904.html; ComponentLink3Description: M08A Package Page; ComponentLink3URL: http://www.national.com/packaging/folders/m08a.html
footprint M08A_N (SOIC, 8-Leads, Body 4.9x3.9mm, Pitch 1.27mm, IPC Medium Density)
footprint M08A_L (SOIC, 8-Leads, Body 4.9x3.9mm, Pitch 1.27mm, IPC High Density)
footprint M08A_M (SOIC, 8-Leads, Body 4.9x3.9mm, Pitch 1.27mm, IPC Low Density)
simulation model LM2904 (SUBCKT)
pins on every part: 4 GND (power), 8 V+ (power)
part A pins: 1 OUTA (out), 2 INA- (in), 3 INA+ (in)
part B pins: 5 INB+ (in), 6 INB- (in), 7 OUTB (out)

## LM2904N
designator U?
Low Power Dual Operational Amplifier; PartNumber: LM2904N; Manufacturer: National Semiconductor; CompType: Amplifiers; PackageTopMarking: NSUZXYTT*LM*2904N; PowerWise: N; Published: 4-Dec-2008; LatestRevisionDate: 13-Jan-2009; LatestRevisionNote: Sim Model Added.; DatasheetVersion: Oct-2005; PackageVersion: revG, May-2006; PackageReference: N08E; Publisher: Altium Limited; PackageDescription: MDIP, .365 x .250 x .130in, 8 Lead, .100in Pitch; RoHS: O; PinCount: 8; DigiKeyPartNumber: LM2904NNS-ND; Code_JEDEC: MS-001-BA; ComponentLink1Description: LM2904 Datasheet; ComponentLink1URL: http://www.national.com/ds/LM/LM2904.pdf; ComponentLink2Description: LM2904 Web Page; ComponentLink2URL: http://www.national.com/pf/LM/LM2904.html; ComponentLink3Description: N08E Package Page; ComponentLink3URL: http://www.national.com/packaging/folders/n08e.html
footprint N08E (DIP, 8-Leads, Row Spacing 7.62mm, Pitch 2.54mm, Body 9.91x6.35mm)
simulation model LM2904 (SUBCKT)
pins on every part: 4 GND (power), 8 V+ (power)
part A pins: 1 OUTA (out), 2 INA- (in), 3 INA+ (in)
part B pins: 5 INB+ (in), 6 INB- (in), 7 OUTB (out)

## LM4250CM
designator U?
Programmable Operational Amplifier; PartNumber: LM4250CM; Manufacturer: National Semiconductor; CompType: Amplifiers; PackageTopMarking: NSZXTT*LM42*50CM; PowerWise: Y; Published: 4-Dec-2008; LatestRevisionDate: 13-Jan-2009; LatestRevisionNote: Sim Model Added.; DatasheetVersion: Aug-2000; PackageVersion: revL, Sep-2006; PackageReference: M08A; Publisher: Altium Limited; PackageDescription: SOIC Narrow, 4.9 x 3.9 x 1.45mm, 8 Lead, 1.27mm Pitch; RoHS: O; PinCount: 8; DigiKeyPartNumber: LM4250CM-ND; Code_JEDEC: MS-012-AA; Code_IPC: SOIC127P600-8; ComponentLink1Description: LM4250 Datasheet; ComponentLink1URL: http://www.national.com/ds/LM/LM4250.pdf; ComponentLink2Description: LM4250 Web Page; ComponentLink2URL: http://www.national.com/pf/LM/LM4250.html; ComponentLink3Description: M08A Package Page; ComponentLink3URL: http://www.national.com/packaging/folders/m08a.html
footprint M08A_N (SOIC, 8-Leads, Body 4.9x3.9mm, Pitch 1.27mm, IPC Medium Density)
footprint M08A_L (SOIC, 8-Leads, Body 4.9x3.9mm, Pitch 1.27mm, IPC High Density)
footprint M08A_M (SOIC, 8-Leads, Body 4.9x3.9mm, Pitch 1.27mm, IPC Low Density)
simulation model LM4250 (SUBCKT)
pins: 1 OFS NULL, 2 IN- (in), 3 IN+ (in), 4 V- (power), 5 OFS NULL, 6 OUT (out), 7 V+ (power), 8 I SET

## LM4250CN
designator U?
Programmable Operational Amplifier; PartNumber: LM4250CN; Manufacturer: National Semiconductor; CompType: Amplifiers; PackageTopMarking: NSUZXYTT*LM*4250CN; PowerWise: Y; Published: 4-Dec-2008; LatestRevisionDate: 13-Jan-2009; LatestRevisionNote: Sim Model Added.; DatasheetVersion: Aug-2000; PackageVersion: revG, May-2006; PackageReference: N08E; Publisher: Altium Limited; PackageDescription: MDIP, .365 x .250 x .130in, 8 Lead, .100in Pitch; RoHS: O; PinCount: 8; DigiKeyPartNumber: LM4250CN-ND; Code_JEDEC: MS-001-BA; ComponentLink1Description: LM4250 Datasheet; ComponentLink1URL: http://www.national.com/ds/LM/LM4250.pdf; ComponentLink2Description: LM4250 Web Page; ComponentLink2URL: http://www.national.com/pf/LM/LM4250.html; ComponentLink3Description: N08E Package Page; ComponentLink3URL: http://www.national.com/packaging/folders/n08e.html
footprint N08E (DIP, 8-Leads, Row Spacing 7.62mm, Pitch 2.54mm, Body 9.91x6.35mm)
simulation model LM4250 (SUBCKT)
pins: 1 OFS NULL, 2 IN- (in), 3 IN+ (in), 4 V- (power), 5 OFS NULL, 6 OUT (out), 7 V+ (power), 8 I SET

## LM4250J-MIL
designator U?
Programmable Operational Amplifier; PartNumber: LM4250J-MIL; Manufacturer: National Semiconductor; CompType: Amplifiers; PackageTopMarking: NSZSSXXYYA*LM4250J*-MIL; Published: 4-Dec-2008; DatasheetVersion: Aug-2000; PackageVersion: revM, Jul-2002; PackageReference: J08A; Publisher: Altium Limited; PackageDescription: Cerdip, .400 x .310in Body, 8 Lead, .300in Centers, .100in Pitch; RoHS: N; PinCount: 8; ComponentLink1Description: LM4250 Datasheet; ComponentLink1URL: http://www.national.com/ds/LM/LM4250.pdf; ComponentLink2Description: LM4250 Web Page; ComponentLink2URL: http://www.national.com/pf/LM/LM4250.html; ComponentLink3Description: J08A Package Page; ComponentLink3URL: http://www.national.com/packaging/folders/j08a.html
footprint J08A (DIP, 8-Leads, Row Spacing 7.62mm, Pitch 2.54mm, Body 9.78x6.73mm)
pins: 1 OFS NULL, 2 IN- (in), 3 IN+ (in), 4 V- (power), 5 OFS NULL, 6 OUT (out), 7 V+ (power), 8 I SET

## LM6132AIM
designator U?
Dual Low Power 10 MHz Rail-to-Rail I/O Operational Amplifier; PartNumber: LM6132AIM; Manufacturer: National Semiconductor; CompType: Amplifiers; PackageTopMarking: NSZXTT*LM61*32AIM; PowerWise: N; Published: 4-Dec-2008; LatestRevisionDate: 13-Jan-2009; LatestRevisionNote: Sim Model Added.; DatasheetVersion: Nov-2004; PackageVersion: revL, Sep-2006; PackageReference: M08A; Publisher: Altium Limited; PackageDescription: SOIC Narrow, 4.9 x 3.9 x 1.45mm, 8 Lead, 1.27mm Pitch; RoHS: O; PinCount: 8; DigiKeyPartNumber: LM6132AIM-ND; Code_JEDEC: MS-012-AA; Code_IPC: SOIC127P600-8; ComponentLink1Description: LM6132 Datasheet; ComponentLink1URL: http://www.national.com/ds/LM/LM6132.pdf; ComponentLink2Description: LM6132 Web Page; ComponentLink2URL: http://www.national.com/pf/LM/LM6132.html; ComponentLink3Description: M08A Package Page; ComponentLink3URL: http://www.national.com/packaging/folders/m08a.html
footprint M08A_N (SOIC, 8-Leads, Body 4.9x3.9mm, Pitch 1.27mm, IPC Medium Density)
footprint M08A_L (SOIC, 8-Leads, Body 4.9x3.9mm, Pitch 1.27mm, IPC High Density)
footprint M08A_M (SOIC, 8-Leads, Body 4.9x3.9mm, Pitch 1.27mm, IPC Low Density)
simulation model LM6132A (SUBCKT)
pins on every part: 4 V- (power), 8 V+ (power)
part A pins: 1 OUTA (out), 2 INA- (in), 3 INA+ (in)
part B pins: 5 INB+ (in), 6 INB- (in), 7 OUTB (out)

## LM6132BIM
designator U?
Dual Low Power 10 MHz Rail-to-Rail I/O Operational Amplifier; PartNumber: LM6132BIM; Manufacturer: National Semiconductor; CompType: Amplifiers; PackageTopMarking: NSZXTT*LM61*32BIM; PowerWise: N; Published: 4-Dec-2008; LatestRevisionDate: 13-Jan-2009; LatestRevisionNote: Sim Model Added.; DatasheetVersion: Nov-2004; PackageVersion: revL, Sep-2006; PackageReference: M08A; Publisher: Altium Limited; PackageDescription: SOIC Narrow, 4.9 x 3.9 x 1.45mm, 8 Lead, 1.27mm Pitch; RoHS: O; PinCount: 8; DigiKeyPartNumber: LM6132BIM-ND; Code_JEDEC: MS-012-AA; Code_IPC: SOIC127P600-8; ComponentLink1Description: LM6132 Datasheet; ComponentLink1URL: http://www.national.com/ds/LM/LM6132.pdf; ComponentLink2Description: LM6132 Web Page; ComponentLink2URL: http://www.national.com/pf/LM/LM6132.html; ComponentLink3Description: M08A Package Page; ComponentLink3URL: http://www.national.com/packaging/folders/m08a.html
footprint M08A_N (SOIC, 8-Leads, Body 4.9x3.9mm, Pitch 1.27mm, IPC Medium Density)
footprint M08A_L (SOIC, 8-Leads, Body 4.9x3.9mm, Pitch 1.27mm, IPC High Density)
footprint M08A_M (SOIC, 8-Leads, Body 4.9x3.9mm, Pitch 1.27mm, IPC Low Density)
simulation model LM6132B (SUBCKT)
pins on every part: 4 V- (power), 8 V+ (power)
part A pins: 1 OUTA (out), 2 INA- (in), 3 INA+ (in)
part B pins: 5 INB+ (in), 6 INB- (in), 7 OUTB (out)

## LM6132BIN
designator U?
Dual Low Power 10 MHz Rail-to-Rail I/O Operational Amplifier; PartNumber: LM6132BIN; Manufacturer: National Semiconductor; CompType: Amplifiers; PackageTopMarking: NSUZXYTT*LM6132*BIN; PowerWise: N; Published: 4-Dec-2008; LatestRevisionDate: 13-Jan-2009; LatestRevisionNote: Sim Model Added.; DatasheetVersion: Nov-2004; PackageVersion: revG, May-2006; PackageReference: N08E; Publisher: Altium Limited; PackageDescription: MDIP, .365 x .250 x .130in, 8 Lead, .100in Pitch; RoHS: O; PinCount: 8; DigiKeyPartNumber: LM6132BIN-ND; Code_JEDEC: MS-001-BA; ComponentLink1Description: LM6132 Datasheet; ComponentLink1URL: http://www.national.com/ds/LM/LM6132.pdf; ComponentLink2Description: LM6132 Web Page; ComponentLink2URL: http://www.national.com/pf/LM/LM6132.html; ComponentLink3Description: N08E Package Page; ComponentLink3URL: http://www.national.com/packaging/folders/n08e.html
footprint N08E (DIP, 8-Leads, Row Spacing 7.62mm, Pitch 2.54mm, Body 9.91x6.35mm)
simulation model LM6132B (SUBCKT)
pins on every part: 4 V- (power), 8 V+ (power)
part A pins: 1 OUTA (out), 2 INA- (in), 3 INA+ (in)
part B pins: 5 INB+ (in), 6 INB- (in), 7 OUTB (out)

## LM6134AIM
designator U?
Quad Low Power 10 MHz Rail-to-Rail I/O Operational Amplifier; PartNumber: LM6134AIM; Manufacturer: National Semiconductor; CompType: Amplifiers; PackageTopMarking: NSUZXYTT*LM6134AIM; PowerWise: N; Published: 4-Dec-2008; LatestRevisionDate: 13-Jan-2009; LatestRevisionNote: Sim Model Added.; DatasheetVersion: Nov-2004; PackageVersion: revJ, Jan-1996; PackageReference: M14A; Publisher: Altium Limited; PackageDescription: Molded Package S.O., .150in Wide, 14 Lead; RoHS: O; PinCount: 14; DigiKeyPartNumber: LM6134AIM-ND; Code_JEDEC: MS-012AB; Code_IPC: SOIC127P600-14; ComponentLink1Description: LM6134 Datasheet; ComponentLink1URL: http://www.national.com/ds/LM/LM6134.pdf; ComponentLink2Description: LM6134 Web Page; ComponentLink2URL: http://www.national.com/pf/LM/LM6134.html; ComponentLink3Description: M14A Package Page; ComponentLink3URL: http://www.national.com/packaging/folders/m14a.html
footprint M14A_N (SOIC, 14-Leads, Body 8.6x3.9mm, Pitch 1.27mm, IPC Medium Density)
footprint M14A_L (SOIC, 14-Leads, Body 8.6x3.9mm, Pitch 1.27mm, IPC High Density)
footprint M14A_M (SOIC, 14-Leads, Body 8.6x3.9mm, Pitch 1.27mm, IPC Low Density)
simulation model LM6132A (SUBCKT)
pins on every part: 4 V+ (power), 11 V- (power)
part A pins: 1 OUTA (out), 2 INA- (in), 3 INA+ (in)
part B pins: 5 INB+ (in), 6 INB- (in), 7 OUTB (out)
part C pins: 8 OUTC (out), 9 INC- (in), 10 INC+ (in)
part D pins: 12 IND+ (in), 13 IND- (in), 14 OUTD (out)

## LM6134BIM
designator U?
Quad Low Power 10 MHz Rail-to-Rail I/O Operational Amplifier; PartNumber: LM6134BIM; Manufacturer: National Semiconductor; CompType: Amplifiers; PackageTopMarking: NSUZXYTT*LM6134BIM; PowerWise: N; Published: 4-Dec-2008; LatestRevisionDate: 13-Jan-2009; LatestRevisionNote: Sim Model Added.; DatasheetVersion: Nov-2004; PackageVersion: revJ, Jan-1996; PackageReference: M14A; Publisher: Altium Limited; PackageDescription: Molded Package S.O., .150in Wide, 14 Lead; RoHS: O; PinCount: 14; DigiKeyPartNumber: LM6134BIM-ND; Code_JEDEC: MS-012AB; Code_IPC: SOIC127P600-14; ComponentLink1Description: LM6134 Datasheet; ComponentLink1URL: http://www.national.com/ds/LM/LM6134.pdf; ComponentLink2Description: LM6134 Web Page; ComponentLink2URL: http://www.national.com/pf/LM/LM6134.html; ComponentLink3Description: M14A Package Page; ComponentLink3URL: http://www.national.com/packaging/folders/m14a.html
footprint M14A_N (SOIC, 14-Leads, Body 8.6x3.9mm, Pitch 1.27mm, IPC Medium Density)
footprint M14A_L (SOIC, 14-Leads, Body 8.6x3.9mm, Pitch 1.27mm, IPC High Density)
footprint M14A_M (SOIC, 14-Leads, Body 8.6x3.9mm, Pitch 1.27mm, IPC Low Density)
simulation model LM6132B (SUBCKT)
pins on every part: 4 V+ (power), 11 V- (power)
part A pins: 1 OUTA (out), 2 INA- (in), 3 INA+ (in)
part B pins: 5 INB+ (in), 6 INB- (in), 7 OUTB (out)
part C pins: 8 OUTC (out), 9 INC- (in), 10 INC+ (in)
part D pins: 12 IND+ (in), 13 IND- (in), 14 OUTD (out)

## LM6134BIN
designator U?
Quad Low Power 10 MHz Rail-to-Rail I/O Operational Amplifier; PartNumber: LM6134BIN; Manufacturer: National Semiconductor; CompType: Amplifiers; PackageTopMarking: NSUZXYYTTE#*LM6134BIN; PowerWise: N; Published: 4-Dec-2008; LatestRevisionDate: 13-Jan-2009; LatestRevisionNote: Sim Model Added.; DatasheetVersion: Nov-2004; PackageVersion: revG, May-2006; PackageReference: N14A; Publisher: Altium Limited; PackageDescription: MDIP, .750 x .250 x.130in, 14 Lead, .100in Pitch; RoHS: O; PinCount: 14; DigiKeyPartNumber: LM6134BIN-ND; Code_JEDEC: MS-001-AA; ComponentLink1Description: LM6134 Datasheet; ComponentLink1URL: http://www.national.com/ds/LM/LM6134.pdf; ComponentLink2Description: LM6134 Web Page; ComponentLink2URL: http://www.national.com/pf/LM/LM6134.html; ComponentLink3Description: N14A Package Page; ComponentLink3URL: http://www.national.com/packaging/folders/n14a.html
footprint N14A (DIP, 14-Leads, Row Spacing 7.62mm, Pitch 2.54mm, Body 19.56x6.35mm)
simulation model LM6132B (SUBCKT)
pins on every part: 4 V+ (power), 11 V- (power)
part A pins: 1 OUTA (out), 2 INA- (in), 3 INA+ (in)
part B pins: 5 INB+ (in), 6 INB- (in), 7 OUTB (out)
part C pins: 8 OUTC (out), 9 INC- (in), 10 INC+ (in)
part D pins: 12 IND+ (in), 13 IND- (in), 14 OUTD (out)

## LM6142AIM
designator U?
Dual High Speed/Low Power 17 MHz Rail-to-Rail I/O Operational Amplifier; PartNumber: LM6142AIM; Manufacturer: National Semiconductor; CompType: Amplifiers; PackageTopMarking: NSZXTT*LM614*2AIM; PowerWise: N; Published: 4-Dec-2008; LatestRevisionDate: 13-Jan-2009; LatestRevisionNote: Sim Model Added.; DatasheetVersion: Nov-2004; PackageVersion: revL, Sep-2006; PackageReference: M08A; Publisher: Altium Limited; PackageDescription: SOIC Narrow, 4.9 x 3.9 x 1.45mm, 8 Lead, 1.27mm Pitch; RoHS: O; PinCount: 8; DigiKeyPartNumber: LM6142AIM-ND; Code_JEDEC: MS-012-AA; Code_IPC: SOIC127P600-8; ComponentLink1Description: LM6142 Datasheet; ComponentLink1URL: http://www.national.com/ds/LM/LM6142.pdf; ComponentLink2Description: LM6142 Web Page; ComponentLink2URL: http://www.national.com/pf/LM/LM6142.html; ComponentLink3Description: M08A Package Page; ComponentLink3URL: http://www.national.com/packaging/folders/m08a.html
footprint M08A_N (SOIC, 8-Leads, Body 4.9x3.9mm, Pitch 1.27mm, IPC Medium Density)
footprint M08A_L (SOIC, 8-Leads, Body 4.9x3.9mm, Pitch 1.27mm, IPC High Density)
footprint M08A_M (SOIC, 8-Leads, Body 4.9x3.9mm, Pitch 1.27mm, IPC Low Density)
simulation model LM6142A (SUBCKT)
pins on every part: 4 V- (power), 8 V+ (power)
part A pins: 1 OUTA (out), 2 INA- (in), 3 INA+ (in)
part B pins: 5 INB+ (in), 6 INB- (in), 7 OUTB (out)

## LM6142AMJ-QML
designator U?
Dual High Speed/Low Power 17 MHz Rail-to-Rail I/O Operational Amplifier; PartNumber: LM6142AMJ-QML; Manufacturer: National Semiconductor; CompType: Amplifiers; PackageTopMarking: NSZSSXXYYA*LM6142AMJ-*QML Q 5962-*9550301QPA; PowerWise: N; Published: 4-Dec-2008; LatestRevisionDate: 13-Jan-2009; LatestRevisionNote: Sim Model Added.; DatasheetVersion: Nov-2004; PackageVersion: revM, Jul-2002; PackageReference: J08A; Publisher: Altium Limited; PackageDescription: Cerdip, .400 x .310in Body, 8 Lead, .300in Centers, .100in Pitch; RoHS: N; PinCount: 8; ComponentLink1Description: LM6142 Datasheet; ComponentLink1URL: http://www.national.com/ds/LM/LM6142.pdf; ComponentLink2Description: LM6142 Web Page; ComponentLink2URL: http://www.national.com/pf/LM/LM6142.html; ComponentLink3Description: J08A Package Page; ComponentLink3URL: http://www.national.com/packaging/folders/j08a.html
footprint J08A (DIP, 8-Leads, Row Spacing 7.62mm, Pitch 2.54mm, Body 9.78x6.73mm)
simulation model LM6142A (SUBCKT)
pins on every part: 4 V- (power), 8 V+ (power)
part A pins: 1 OUTA (out), 2 INA- (in), 3 INA+ (in)
part B pins: 5 INB+ (in), 6 INB- (in), 7 OUTB (out)